# Altium schematic symbol library components.SchLib: 5 symbols
Pins are listed as number, name and electrical type; pins without a type are passive.

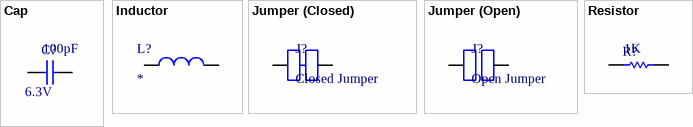
[diagram p0: symbols Cap to Resistor]

## Cap
designator C?  value 100pF  Voltage: 6.3V
Capacitor
simulation model CAP (Capacitor)
signal-integrity model Cap
footprint 0603 (1608M) (Chip Resistor, Body 1.6x0.8mm, IPC High Density)
footprint 0805 (2012M) (0805 Footprint)
footprint 1206 (3216M) (1206 Footprint)
footprint 1210 (3225M) (Chip Capacitor, Body 3.2x2.5mm, IPC Low Density)
footprint 0402 (1005M) (Chip Capacitor, Body 1.0x0.5mm, IPC High Density)
pins: 1, 2

## Inductor
designator L?
footprint LPS3010 (Shielded SMT Power Inductors – LPS3010 Series)
footprint 0402 (1005M) (Chip Capacitor, Body 1.0x0.5mm, IPC High Density)
pins: 1, 2

## Jumper (Closed)
designator J?, comment Closed Jumper  (net tie, no BOM)
footprint Jumper (Close)
pins: 1, 2

## Jumper (Open)
designator J?, comment Open Jumper  (no BOM)
footprint Jumper (Open)
pins: 1, 2

## Resistor
designator R?  value 1K
Resistor; Tolerance: 5%; Published: 8-Jun-2000; LatestRevisionDate: 17-Jul-2002; LatestRevisionNote: Re-released for DXP Platform.; PackageReference: AXIAL-0.3; Publisher: Altium Limited; PackageDescription: Axial Device, Thru-Hole; 2 Leads; 0.3 in Pin Spacing
simulation model RESISTOR (Resistor)
signal-integrity model Res
footprint 0603 (1608M) (Chip Resistor, Body 1.6x0.8mm, IPC High Density)
footprint 0805 (2012M) (0805 Footprint)
footprint 0402 (1005M) (Chip Capacitor, Body 1.0x0.5mm, IPC High Density)
pins: 1, 2